# EAGLE library part PCM4202 (library RalimTek)
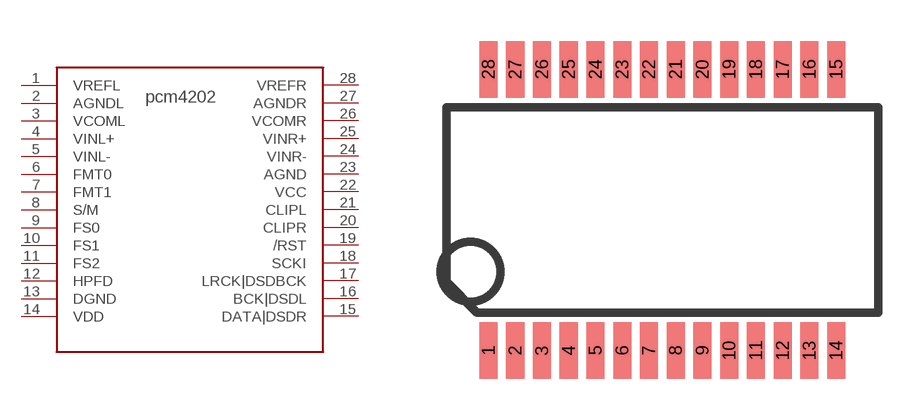
[diagram p29: symbol with the pads of SSOP28(G); footprint SSOP28(G)]

Designator prefix -

## PCM4202  [SSOP28(G)]
1  VREFL
2  AGNDL
3  VCOML
4  VINL+
5  VINL-
6  FMT0
7  FMT1
8  S/M
9  FS0
10  FS1
11  FS2
12  HPFD
13  DGND
14  VDD
15  DATA|DSDR
16  BCK|DSDL
17  LRCK|DSDBCK
18  SCKI
19  /RST
20  CLIPR
21  CLIPL
22  VCC
23  AGND
24  VINR-
25  VINR+
26  VCOMR
27  AGNDR
28  VREFR

## Footprint SSOP28(G) (pad centres in mm)
Package generated from: SSOP28(G).asc (!PADS-POWERPCB-V5.0-BASIC! DESIGN DATABASE ASCII FILE 1.0) with :import-pads-powerpcb-v5.ulp Version 1.0.1 at 04.10.2012 14:11:39
smd 0.66 x 2.055: 1 -6.338,-5.122; 2 -5.362,-5.122; 3 -4.388,-5.122; 4 -3.413,-5.122; 5 -2.438,-5.122; 6 -1.462,-5.122; 7 -0.487,-5.122; 8 0.487,-5.122; 9 1.462,-5.122; 10 2.438,-5.122; 11 3.413,-5.122; 12 4.388,-5.122; 13 5.362,-5.122; 14 6.338,-5.122; 15 6.338,5.122; 16 5.362,5.122; 17 4.388,5.122; 18 3.413,5.122; 19 2.438,5.122; 20 1.462,5.122; 21 0.487,5.122; 22 -0.487,5.122; 23 -1.462,5.122; 24 -2.438,5.122; 25 -3.413,5.122; 26 -4.388,5.122; 27 -5.362,5.122; 28 -6.338,5.122